# Altium footprint library SAW_12pin_7.0x5.0.PcbLib: 1 footprints
Each footprint in its own frame and in the unit in brackets; x right, y up, seen from the top. Pads: shape width x height; smd on the part's side, far side on the other; paste and mask are expansions set on the pad; w line width, h text height; cw(c..) or ccw(c..) is an arc to the next point about the centre after c.
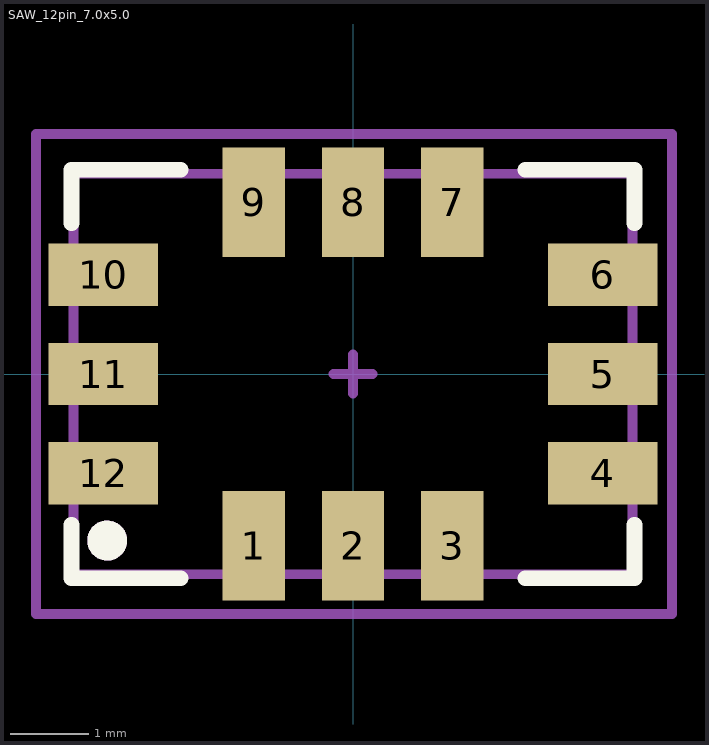
[diagram p0: the footprint, top view; thin cyan lines are the x and y axes]

## SAW_12pin_7.0x5.0 [mm]
height 1.8
pads (12):
  rect 0.8x1.4 smd: 1(-1.27,-2.2) 2(0,-2.2) 3(1.27,-2.2) 7(1.27,2.2) 8(0,2.2) 9(-1.27,2.2)
  rect 1.4x0.8 smd: 4(3.2,-1.27) 5(3.2,0) 6(3.2,1.27) 10(-3.2,1.27) 11(-3.2,0) 12(-3.2,-1.27)
Top Overlay:
  circle w0.254: c-3.15,-2.134 r0.129
  lines w0.2: -3.607,-1.93 -3.607,-2.616 -2.21,-2.616 ; -3.607,1.93 -3.607,2.616 -2.21,2.616 ; 2.21,-2.616 3.607,-2.616 3.607,-1.93 ; 2.21,2.616 3.607,2.616 3.607,1.93
Mechanical 13:
  circle w0.254: c-3.15,-2.134 r0.129
  lines w0.127: -3.581,-2.565 3.581,-2.565 3.581,2.565 -3.581,2.565 -3.581,-2.565
Mechanical 15:
  lines w0.127: -0.25,0 0.25,0 ; 0,-0.25 0,0.25 ; -4.064,-3.073 -4.064,3.073 4.089,3.073 4.089,-3.073 -4.064,-3.073
Mechanical 17:
  text "'.Designator'" at -2.235,-0.076 h0.41
Mechanical 19:
  text "'.Comment'" at -2.235,-0.076 h0.41
3D body "User Library-TA0395A SAW Filter 7_0mm x 5_0mm SMD.stp": height 2, standoff -0.01, extent -3.5,-2.5 3.5,2.5